# EAGLE library part DM74157N (library DM74157N)
Check availability <https://pricing.snapeda.com/parts/DM74157N/ON%20Semiconductor/view-part?ref=eda>
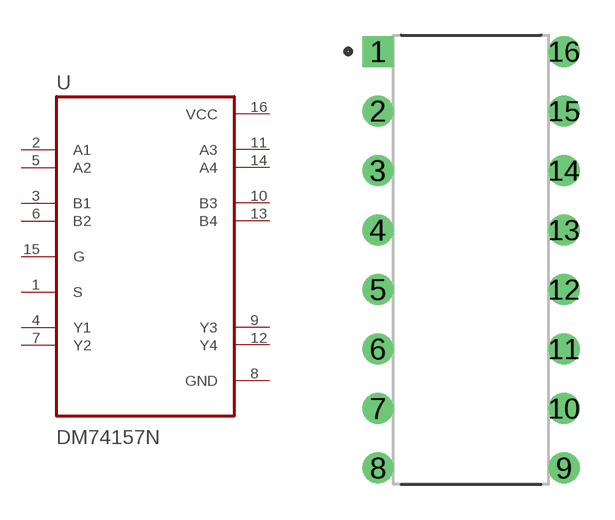
[diagram p0: symbol with the pads of DIP794W45P254L1918H533Q16; footprint DIP794W45P254L1918H533Q16]

Designator prefix U

## DM74157N (Availability: In Stock; Check_prices: https://www.snapeda.com/parts/DM74157N/Onsemi/view-part/?ref=eda; Description: IC MULTIPLEXER 4 X 2:1 16DIP; MF: ON Semiconductor; MP: DM74157N; Package: PDIP-16 ON Semiconductor; Price: None; SnapEDA_Link: https://www.snapeda.com/parts/DM74157N/Onsemi/view-part/?ref=snap)  [DIP794W45P254L1918H533Q16]
1  S
2  A1
3  B1
4  Y1
5  A2
6  B2
7  Y2
8  GND  pwr
9  Y3
10  B3
11  A3
12  Y4
13  B4
14  A4
15  G
16  VCC  pwr

## Footprint DIP794W45P254L1918H533Q16 (pad centres in mm)
drill 0.82 square: 1 -3.97,8.89
drill 0.82: 2 -3.97,6.35; 3 -3.97,3.81; 4 -3.97,1.27; 5 -3.97,-1.27; 6 -3.97,-3.81; 7 -3.97,-6.35; 8 -3.97,-8.89; 9 3.97,-8.89; 10 3.97,-6.35; 11 3.97,-3.81; 12 3.97,-1.27; 13 3.97,1.27; 14 3.97,3.81; 15 3.97,6.35; 16 3.97,8.89